# Altium footprint library ACM70V.PcbLib: 1 footprints
Each footprint in its own frame and in the unit in brackets; x right, y up, seen from the top. Pads: shape width x height; smd on the part's side, far side on the other; paste and mask are expansions set on the pad; w line width, h text height; cw(c..) or ccw(c..) is an arc to the next point about the centre after c.
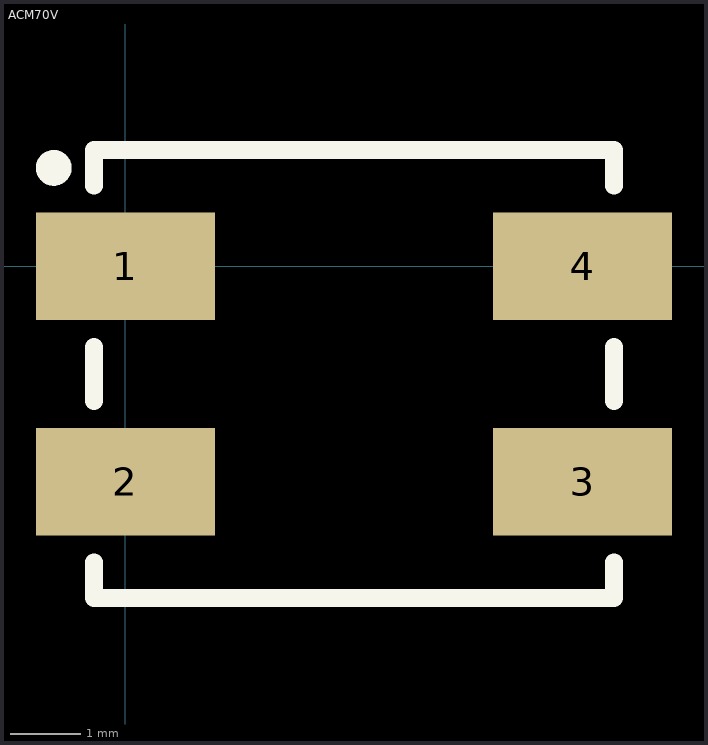
[diagram p0: the footprint, top view; thin cyan lines are the x and y axes]

## ACM70V [mil]
pads (4):
  rect 100x60 smd: 1(0,0) 2(0,-120) 3(255,-120) 4(255,0)
Top Overlay:
  circle w10: c-40,55 r5
  lines w10: -17.5,-165 -17.5,-185 272.5,-185 272.5,-165 ; -17.5,-75 -17.5,-45 ; -17.5,45 -17.5,65 272.5,65 272.5,45 ; 272.5,-75 272.5,-45
3D body: height 138, standoff 0, extent -17.5,-185 272.5,65